# Altium footprint library P6HEADER.PcbLib: 1 footprints
Each footprint in its own frame and in the unit in brackets; x right, y up, seen from the top. Pads: shape width x height; smd on the part's side, far side on the other; paste and mask are expansions set on the pad; w line width, h text height; cw(c..) or ccw(c..) is an arc to the next point about the centre after c.
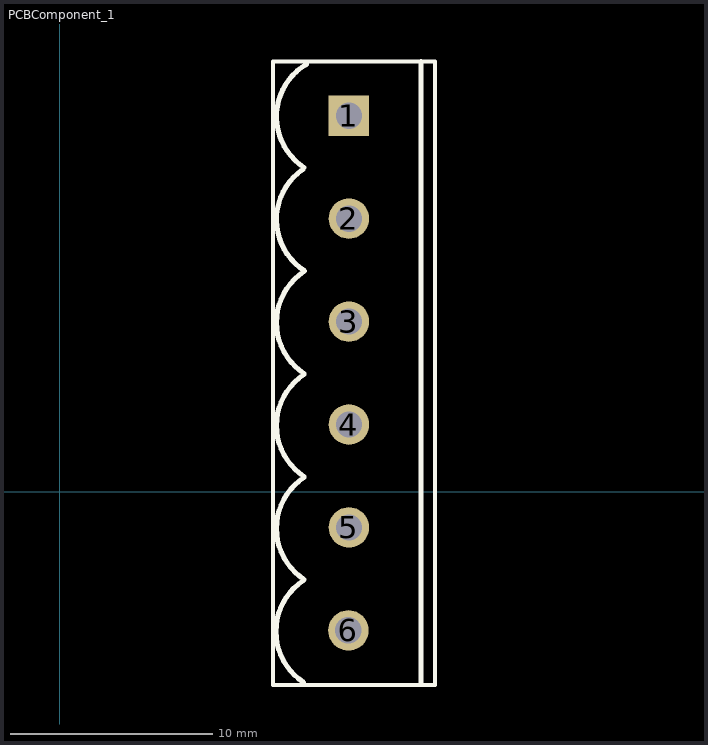
[diagram p0: the footprint, top view; thin cyan lines are the x and y axes]

## PCBComponent_1 [mm]
pads (6):
  rect 2x2 hole 1.3: 1(14.275,18.567)
  round 2 hole 1.3: 2(14.275,13.487) 3(14.275,8.407) 4(14.275,3.327) 5(14.275,-1.753) 6(14.249,-6.833)
Top Overlay:
  lines w0.2: 10.525,-9.525 18.525,-9.525 18.525,5.899 18.525,16.123 18.525,21.234 10.525,21.234 10.525,-9.525
  lines w0.25: 12.001,15.912 ccw(c13.7,13.439) 12.085,10.911 ; 12.034,-4.369 ccw(c13.674,-6.881) 12.037,-9.394 ; 12.06,0.711 ccw(c13.7,-1.801) 12.062,-4.314 ; 12.06,5.791 ccw(c13.7,3.279) 12.062,0.766 ; 12.06,10.871 ccw(c13.7,8.359) 12.062,5.846 ; 12.062,16.006 cw(c13.7,18.519) 12.178,21.104
  lines w0.254: 17.831,-9.398 17.831,21.234